# EAGLE library part WE-RJ45_74980111211 (library 74980104400_Eagle_WE-RJ45_rev19b)
WE-RJ45 LAN Transformer Characteristics RJ45 Connector with integrated transformer / common mode choke Power over Ethernet up to 50 Watt and speeds up to 10 Gbit/s Available in SMD, THT and THT with USB Compliant with standards: IEEE 802.3u, IEEE 802.3ab, IEEE 802.3af, IEEE 802.3at, IEEE 802.3an and upcoming IEE 802.3bt Applications Suitable for industrial temperatures from –40 °C up to +85 °C Compatible to Industrial Ethernet systems like EtherCAT or Profinet Compliant with most IC’s for Ethernet applications such as Microchip, Texas Instruments, Broadcom, Linear Technology Hubs, Routers, Switches, IP cameras, IoT applications <https://katalog.we-online.com/media/images/v2/o35731v209%20Family_WE-RJ45-LAN.jpg> Details see: https://katalog.we-online.com/en/pbs/WE-LAN-RJ45 Updated by Ella Wu 2019-08-05 2019 (C) Wurth Elektronik
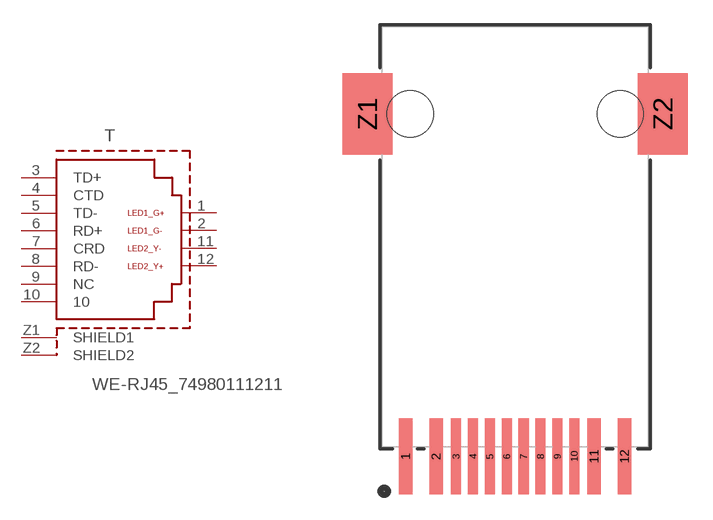
[diagram p10: symbol with the pads of 74980111211; footprint 74980111211]

Designator prefix T

## WE-RJ45_74980111211 (DATA-RATE: 10/100 Base-T; DATASHEET-URL: https://katalog.we-online.com/pbs/datasheet/74980111211.pdf; LED: yellow-green; MOUNT: SMT; PART-NUMBER: 74980111211; POE: non-PoE; PORTS: 1; USB: No)  [74980111211]
1  LED1_G+
2  LED1_G-
3  TD+
4  CTD
5  TD-
6  RD+
7  CRD
8  RD-
9  NC
10  10
11  LED2_Y-
12  LED2_Y+
Z1  SHIELD1  pwr
Z2  SHIELD2  pwr

## Footprint 74980111211 (pad centres in mm)
WE-RJ45 LAN Transformer 10/100 Base-T
smd 0.81 x 4.6: 1 -6.61,-20.69; 2 -4.77,-20.69; 11 4.77,-20.69; 12 6.61,-20.69
smd 0.61 x 4.6: 3 -3.57,-20.69; 4 -2.55,-20.69; 5 -1.53,-20.69; 6 -0.51,-20.69; 7 0.51,-20.69; 8 1.53,-20.69; 9 2.55,-20.69; 10 3.57,-20.69
smd 3 x 4.9: Z1 -8.92,0; Z2 8.92,0
hole 2.8 at -6.35,0
hole 2.8 at 6.35,0